# EAGLE library part MAX30102EFD+ (library MAX30102EFD+)
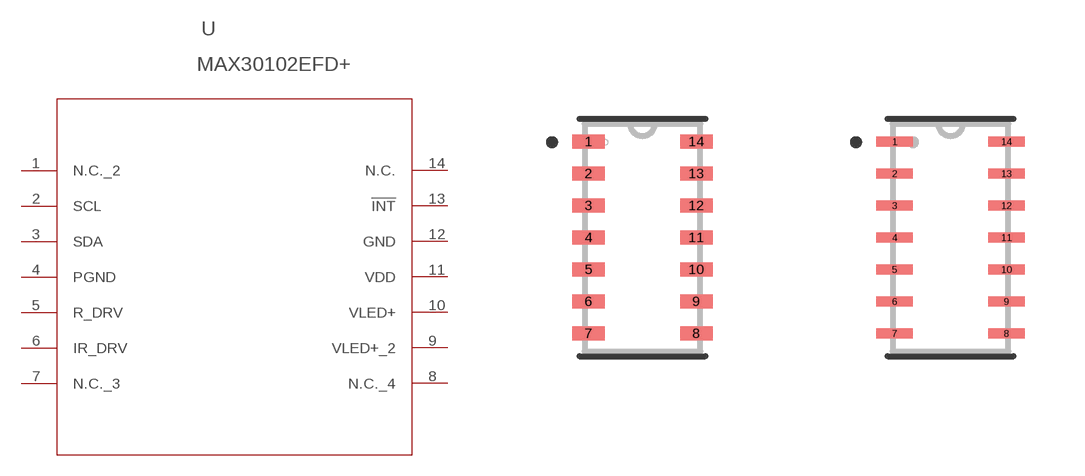
[diagram p0: symbol with the pads of 21-0880B; footprints 21-0880B, 21-0880B-M]

Designator prefix U

## MAX30102EFD+ (BUILT_BY: EMA_UL_Team; MANUFACTURER_PART_NUMBER: MAX30102EFD+; VENDOR: Maxim Integrated Products)  [21-0880B]
1  N.C._2  nc
2  SCL  in
3  SDA
4  PGND  pwr
5  R_DRV  pas
6  IR_DRV  pas
7  N.C._3  nc
8  N.C._4  nc
9  VLED+_2  pas
10  VLED+  pas
11  VDD  pwr
12  GND  pwr
13  !INT  pas
14  N.C.  nc

## MAX30102EFD+21-0880B-M (BUILT_BY: EMA_UL_Team; MANUFACTURER_PART_NUMBER: MAX30102EFD+; VENDOR: Maxim Integrated Products)  [21-0880B-M]
Pads as for 21-0880B

## MAX30102EFD+21-0880B-L (BUILT_BY: EMA_UL_Team; MANUFACTURER_PART_NUMBER: MAX30102EFD+; VENDOR: Maxim Integrated Products)  [21-0880B-L]
Pads as for 21-0880B

## Footprint 21-0880B (pad centres in mm)
smd 0.813 x 0.356: 1 -1.346,2.4; 2 -1.346,1.6; 3 -1.346,0.8; 4 -1.346,0; 5 -1.346,-0.8; 6 -1.346,-1.6; 7 -1.346,-2.4; 8 1.346,-2.4; 9 1.346,-1.6; 10 1.346,-0.8; 11 1.346,0; 12 1.346,0.8; 13 1.346,1.6; 14 1.346,2.4

## Footprint 21-0880B-M (pad centres in mm)
smd 0.914 x 0.254: 1 -1.397,2.4; 2 -1.397,1.6; 3 -1.397,0.8; 4 -1.397,0; 5 -1.397,-0.8; 6 -1.397,-1.6; 7 -1.397,-2.4; 8 1.397,-2.4; 9 1.397,-1.6; 10 1.397,-0.8; 11 1.397,0; 12 1.397,0.8; 13 1.397,1.6; 14 1.397,2.4

## Footprint 21-0880B-L (pad centres in mm)
smd 0.711 x 0.254: 1 -1.295,2.4; 2 -1.295,1.6; 3 -1.295,0.8; 4 -1.295,0; 5 -1.295,-0.8; 6 -1.295,-1.6; 7 -1.295,-2.4; 8 1.295,-2.4; 9 1.295,-1.6; 10 1.295,-0.8; 11 1.295,0; 12 1.295,0.8; 13 1.295,1.6; 14 1.295,2.4